# EAGLE library part PS-2206-L_NS-190450 (library CYCFI_switch)
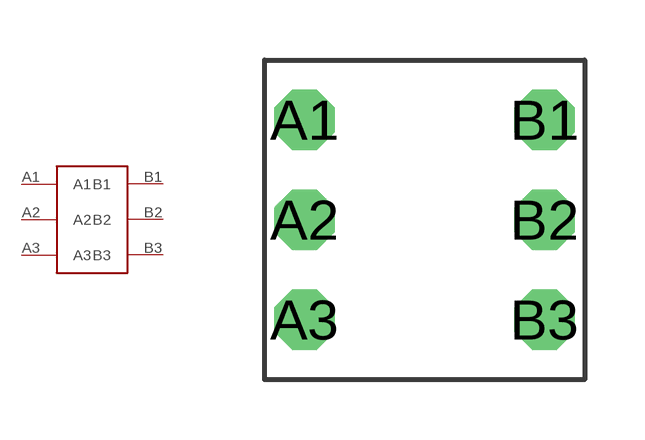
[diagram p2: symbol with the pads of DPDT_C&K_PS-2206-L_NS-190450; footprint DPDT_C&K_PS-2206-L_NS-190450]

Designator prefix -

## PS-2206-L_NS-190450  [DPDT_C&K_PS-2206-L_NS-190450]
A1  A1
A2  A2
A3  A3
B1  B1
B2  B2
B3  B3

## Footprint DPDT_C&K_PS-2206-L_NS-190450 (pad centres in mm)
drill 1 octagon: A1 -3,2.5; A2 -3,0; A3 -3,-2.5; B1 3,2.5; B2 3,0; B3 3,-2.5